# EAGLE library part LTC4151IMS (library LTC4151IMS)
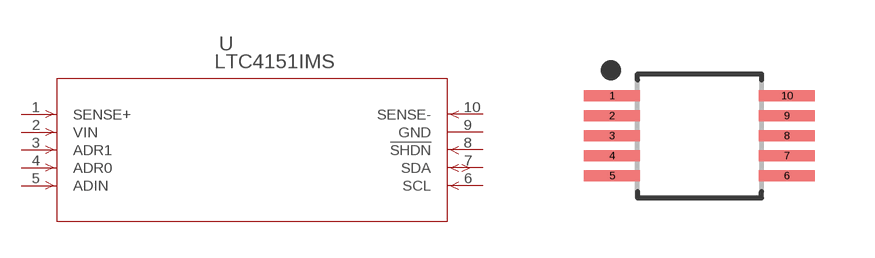
[diagram p1: symbol with the pads of SOP50P490X110-10N; footprint SOP50P490X110-10N]

Designator prefix U

## LTC4151IMS  [SOP50P490X110-10N]
1  SENSE+  in
2  VIN  in
3  ADR1  in
4  ADR0  in
5  ADIN  in
6  SCL  in
7  SDA
8  !SHDN  in
9  GND  pwr
10  SENSE-  in

## Footprint SOP50P490X110-10N (pad centres in mm)
10-SOP, 0.50 mm pitch, 4.90 mm span, 3.00 X 3.00 X 1.10 mm body 10-pin SOP package with 0.50 mm pitch, 4.90 mm span with body size 3.00 X 3.00 X 1.10 mm
smd 1.396 x 0.28: 1 -2.187,1; 2 -2.187,0.5; 3 -2.187,0; 4 -2.187,-0.5; 5 -2.187,-1; 6 2.187,-1; 7 2.187,-0.5; 8 2.187,0; 9 2.187,0.5; 10 2.187,1